# Altium footprint library SAMTEC-A-TSM-102-02-L-SH.PCBLIB: 1 footprints
Each footprint in its own frame and in the unit in brackets; x right, y up, seen from the top. Pads: shape width x height; smd on the part's side, far side on the other; paste and mask are expansions set on the pad; w line width, h text height; cw(c..) or ccw(c..) is an arc to the next point about the centre after c.
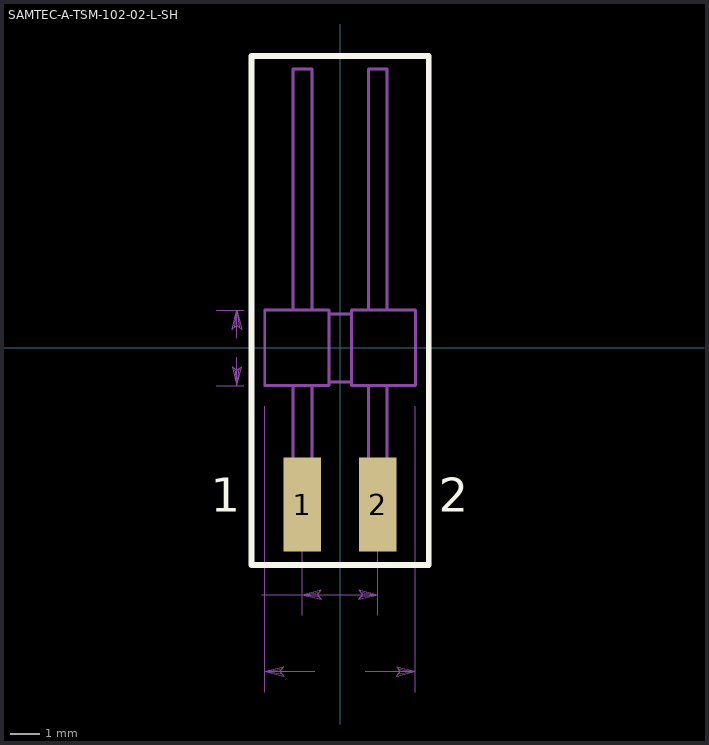
[diagram p0: the footprint, top view; thin cyan lines are the x and y axes]

## SAMTEC-A-TSM-102-02-L-SH [mil]
pads (2):
  rect 50x125.2 smd: 1(-50,-207.99) 2(50,-207.99)
Top Overlay:
  lines w7.87: -117.72,-288.35 -117.72,387.72 117.72,387.72 117.72,-288.35 -117.72,-288.35
  text "1" at -171.65,-232.99 h77.5
  text "2" at 131.14,-232.99 h77.5
Top Paste:
  rectangle: -75,-270.59 -25,-145.39
  rectangle: 25,-270.59 75,-145.39
Top Solder:
  rectangle: -77.01,-272.6 -22.99,-143.39
  rectangle: 22.99,-272.6 77.01,-143.39
Mechanical 16:
  lines w3.94: -62.52,-50 -62.52,-240 -37.48,-240 -37.48,-50 ; -62.52,50 -62.52,370 -37.48,370 -37.48,50 ; -15,-45 0,-45 15,-45 ; -15,45 0,45 15,45 ; 37.48,-50 37.48,-240 62.52,-240 62.52,-50 ; 37.48,50 37.48,370 62.52,370 62.52,50 ; -100,-50 -100,50 -15,50 -15,-50 -100,-50 ; 15,-50 100,-50 100,50 15,50 15,-50
  text "1" at -171.65,-232.99 h77.5
  text "2" at 131.14,-232.99 h77.5
Mechanical 40:
  lines w0: -164.61,-50 -127.6,-50 ; -164.61,50 -127.6,50 ; -137.01,-12.52 -137.01,-50 ; -137.01,12.52 -137.01,50 ; -104.02,-327.48 -50,-327.48 ; -100,-457.09 -100,-77.6 ; -50,-355.12 -50,-235.59 ; -33.5,-429.49 -100,-429.49 ; 33.5,-429.49 100,-429.49 ; 50,-355.12 50,-235.59 ; 100,-457.09 100,-77.6 ; -143.27,-25 -137.01,-50 ; -143.27,-25 -137.01,-30 ; -143.27,-25 -140.12,-27.48 -137.01,-50 ; -137.01,-50 -130.75,-25 -137.01,-30 ; -137.01,-50 -133.86,-27.48 -137.01,-30 ; -137.01,-50 -137.01,-30 ; -137.01,30 -143.27,25 -137.01,50 ; -137.01,30 -130.75,25 ; -137.01,30 -140.12,27.48 -137.01,50 ; -137.01,30 -137.01,50 ; -137.01,50 -130.75,25 ; -137.01,50 -133.86,27.48 -130.75,25 ; -100,-429.49 -75,-423.27 ; -100,-429.49 -75,-435.75 -80,-429.49 ; -100,-429.49 -77.48,-432.64 -80,-429.49 ; -100,-429.49 -80,-429.49 ; -100,-429.49 -77.48,-426.38 -75,-423.27 ; -80,-429.49 -75,-423.27 ; -50,-327.48 -25,-321.26 ; -50,-327.48 -25,-333.74 -30,-327.48 ; -50,-327.48 -27.48,-330.63 -30,-327.48 ; -50,-327.48 -30,-327.48 ; -50,-327.48 -27.48,-324.37 -25,-321.26 ; -50,-327.48 50,-327.48 ; -30,-327.48 -25,-321.26 ; 25,-333.74 50,-327.48 ; 25,-333.74 30,-327.48 ; 25,-333.74 27.48,-330.63 50,-327.48 ; 30,-327.48 25,-321.26 50,-327.48 ; 30,-327.48 27.48,-324.37 50,-327.48 ; 30,-327.48 50,-327.48 ; 75,-435.75 100,-429.49 ; 75,-435.75 80,-429.49 ; 75,-435.75 77.48,-432.64 100,-429.49 ; 80,-429.49 75,-423.27 100,-429.49 ; 80,-429.49 77.48,-426.38 100,-429.49 ; 80,-429.49 100,-429.49
  text "5.080" at -25.98,-434.49 h15.5
  text "2.540" at -163.5,-332.52 h15.5
  text "2.540" at -162.99,-5 h15.5
Mechanical 42:
  lines w3.94: -117.72,-288.35 -117.72,387.72 117.72,387.72 117.72,-288.35 -117.72,-288.35